# Altium integrated library MMZ09312BT1.IntLib: 1 symbol
Pins are listed as number, name and electrical type; pins without a type are passive.

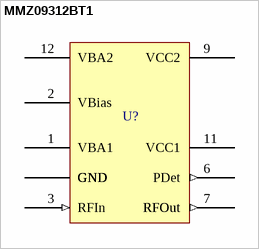
[diagram p0: symbol MMZ09312BT1]

## MMZ09312BT1
designator U?
footprint MMZ09312BT1
pins: 1 VBA1 (power), 2 VBias (power), 3 RFIn (in), 4 GND (power), 5 GND (power), 6 PDet (out), 7 RFOut (out), 8 RFOut (out), 9 VCC2 (power), 10 GND (power), 11 VCC1 (power), 12 VBA2 (power), 13 GND (power)